# Altium schematic symbol library STAXB_MODULE.SchLib: 1 symbol
Pins are listed as number, name and electrical type; pins without a type are passive.

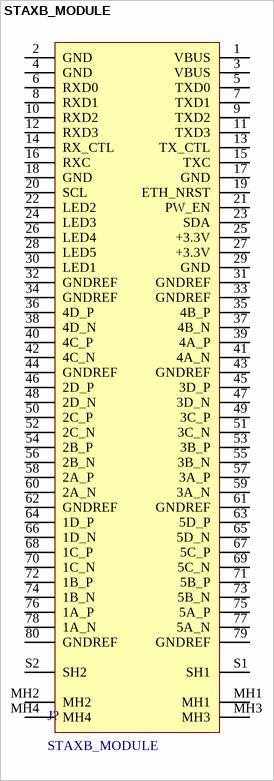
[diagram p0: symbol STAXB_MODULE]

## STAXB_MODULE
designator J?
footprint STAXB_MODULE (Footprint not found)
pins: 1 VBUS (power), 2 GND (power), 3 VBUS (power), 4 GND (power), 5 TXD0, 6 RXD0, 7 TXD1, 8 RXD1, 9 TXD2, 10 RXD2, 11 TXD3, 12 RXD3, 13 TX_CTL, 14 RX_CTL, 15 TXC, 16 RXC, 17 GND (power), 18 GND (power), 19 ETH_NRST, 20 SCL, 21 PW_EN, 22 LED2, 23 SDA, 24 LED3, 25 +3.3V (power), 26 LED4, 27 +3.3V (power), 28 LED5, 29 GND (power), 30 LED1, 31 GNDREF (power), 32 GNDREF (power), 33 GNDREF (power), 34 GNDREF (power), 35 4B_P, 36 4D_P, 37 4B_N, 38 4D_N, 39 4A_P, 40 4C_P, 41 4A_N, 42 4C_N, 43 GNDREF (power), 44 GNDREF (power), 45 3D_P, 46 2D_P, 47 3D_N, 48 2D_N, 49 3C_P, 50 2C_P, 51 3C_N, 52 2C_N, 53 3B_P, 54 2B_P, 55 3B_N, 56 2B_N, 57 3A_P, 58 2A_P, 59 3A_N, 60 2A_N, 61 GNDREF (power), 62 GNDREF (power), 63 5D_P, 64 1D_P, 65 5D_N, 66 1D_N, 67 5C_P, 68 1C_P, 69 5C_N, 70 1C_N, 71 5B_P, 72 1B_P, 73 5B_N, 74 1B_N, 75 5A_P, 76 1A_P, 77 5A_N, 78 1A_N, 79 GNDREF (power), 80 GNDREF (power), MH1, MH2, MH3, MH4, S1 SH1, S2 SH2